# Altium footprint library 101_to_9999_Pin.PcbLib: 7 footprints
Each footprint in its own frame and in the unit in brackets; x right, y up, seen from the top. Pads: shape width x height; smd on the part's side, far side on the other; paste and mask are expansions set on the pad; w line width, h text height; cw(c..) or ccw(c..) is an arc to the next point about the centre after c.
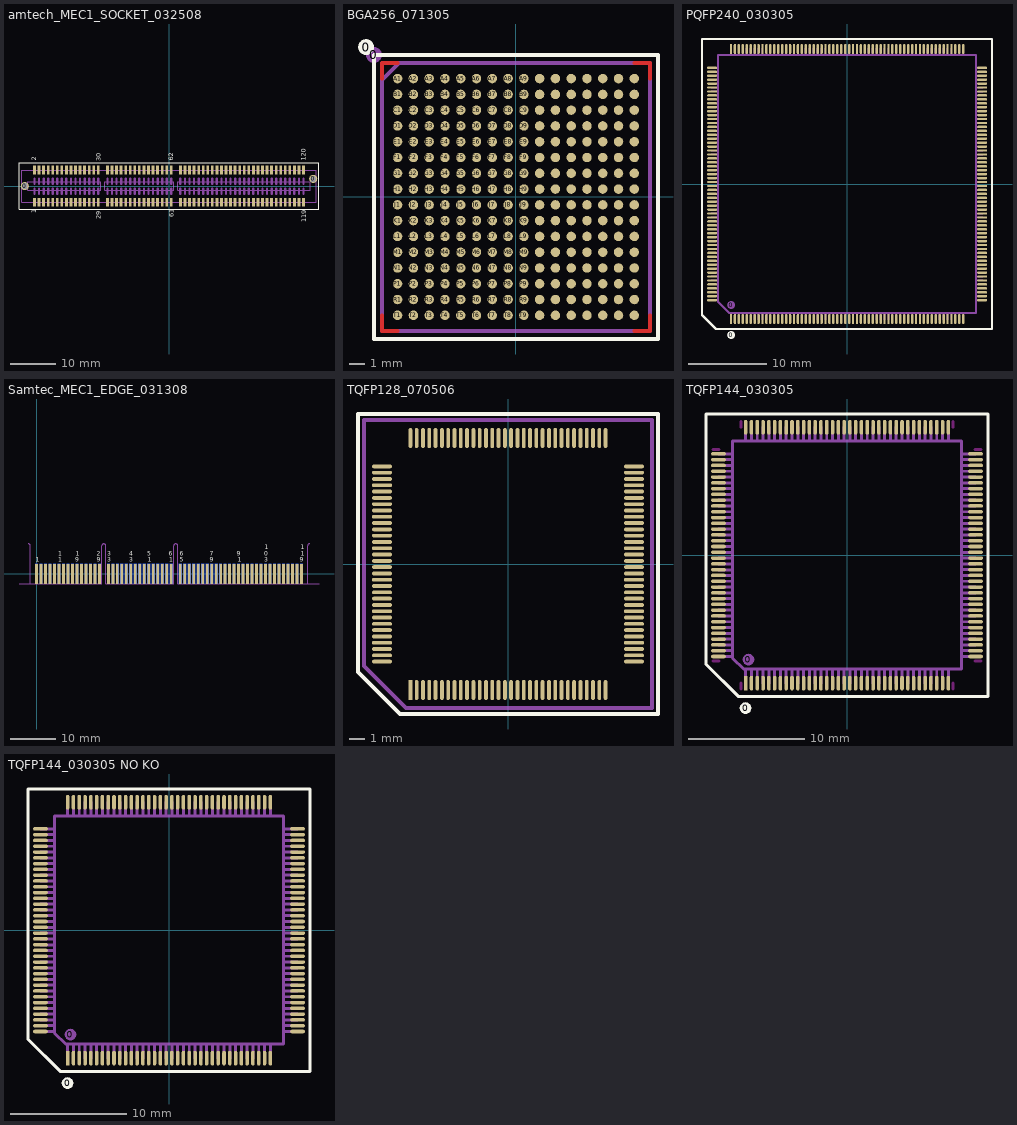
[diagram p0: the footprints below, top view; thin cyan lines are the x and y axes]

## amtech_MEC1_SOCKET_032508 [mil] "SMT"
height 350
pads (118):
  round 70 hole 50: 0(-1245,0) 0(1245,62.5)
  rect 24x74 smd: 1(-1161.41,-139) 2(-1161.41,139) 3(-1122.05,-139) 4(-1122.05,139) 5(-1082.67,-139) 6(-1082.67,139) 7(-1043.31,-139) 8(-1043.31,139) 9(-1003.93,-139) 10(-1003.93,139) 11(-964.57,-139) 12(-964.57,139) 13(-925.2,-139) 14(-925.2,139) 15(-885.83,-139) 16(-885.83,139) 17(-846.46,-139) 18(-846.46,139) 19(-807.09,-139) 20(-807.09,139) 21(-767.72,-139) 22(-767.72,139) 23(-728.35,-139) 24(-728.35,139) 25(-688.98,-139) 26(-688.98,139) 27(-649.61,-139) 28(-649.61,139) 29(-610.24,-139) 30(-610.24,139) 33(-531.5,-139) 34(-531.5,139) 35(-492.12,-139) 36(-492.12,139) 37(-452.75,-139) 38(-452.75,139) 39(-413.38,-139) 40(-413.38,139) 41(-374.01,-139) 42(-374.01,139) 43(-334.64,-139) 44(-334.64,139) 45(-295.27,-139) 46(-295.27,139) 47(-255.91,-139) 48(-255.91,139) 49(-216.53,-139) 50(-216.53,139) 51(-177.16,-139) 52(-177.16,139) 53(-137.79,-139) 54(-137.79,139) 55(-98.42,-139) 56(-98.42,139) 57(-59.05,-139) 58(-59.05,139) 59(-19.68,-139) 60(-19.68,139) 61(19.68,-139) 62(19.68,139) 65(98.42,-139) 66(98.42,139) 67(137.79,-139) 68(137.79,139) 69(177.16,-139) 70(177.16,139) 71(216.53,-139) 72(216.53,139) 73(255.91,-139) 74(255.91,139) 75(295.27,-139) 76(295.27,139) 77(334.64,-139) 78(334.64,139) 79(374.01,-139) 80(374.01,139) 81(413.38,-139) 82(413.38,139) 83(452.75,-139) 84(452.75,139) 85(492.12,-139) 86(492.12,139) 87(531.5,-139) 88(531.5,139) 89(570.87,-139) 90(570.87,139) 91(610.24,-139) 92(610.24,139) 93(649.61,-139) 94(649.61,139) 95(688.98,-139) 96(688.98,139) 97(728.35,-139) 98(728.35,139) 99(767.72,-139) 100(767.72,139) 101(807.09,-139) 102(807.09,139) 103(846.46,-139) 104(846.46,139) 105(885.83,-139) 106(885.83,139) 107(925.2,-139) 108(925.2,139) 109(964.57,-139) 110(964.57,139) 111(1003.93,-139) 112(1003.93,139) 113(1043.31,-139) 114(1043.31,139) 115(1082.67,-139) 116(1082.67,139) 117(1122.05,-139) 118(1122.05,139) 119(1161.41,-139) 120(1161.41,139)
Top Overlay:
  lines w10: -1295,-200 -1295,200 1295,200 1295,-200 -1295,-200
  text "120" at 1180,220 h40
  text "119" at 1185,-310 h40
  text "61" at 40,-270 h40
  text "62" at 35,220 h40
  text "30" at -590,215 h40
  text "29" at -590,-285 h40
  text "1" at -1145,-235 h40
  text "2" at -1145,220 h40
Assembly Outline:
  lines w10: -1270,-138 -1270,138 1270,138 1270,-138 -1270,-138 ; -1220,-36 -590,-36 -590,36 -1220,36 -1220,-36 ; -555,-36 40,-36 40,36 -555,36 -555,-36 ; 75,-36 1220,-36 1220,36 75,36 75,-36
  lines w20: -1122.05,-65 -1122.05,-20 ; -1122.05,20 -1122.05,65 ; -1082.67,-65 -1082.67,-20 ; -1082.67,20 -1082.67,65 ; -1043.31,-65 -1043.31,-20 ; -1043.31,20 -1043.31,65 ; -1003.93,-65 -1003.93,-20 ; -1003.93,20 -1003.93,65 ; -964.57,-65 -964.57,-20 ; -964.57,20 -964.57,65 ; -925.2,-65 -925.2,-20 ; -925.2,20 -925.2,65 ; -885.83,-65 -885.83,-20 ; -885.83,20 -885.83,65 ; -846.46,-65 -846.46,-20 ; -846.46,20 -846.46,65 ; -807.09,-65 -807.09,-20 ; -807.09,20 -807.09,65 ; -767.72,-65 -767.72,-20 ; -767.72,20 -767.72,65 ; -728.35,-65 -728.35,-20 ; -728.35,20 -728.35,65 ; -688.98,-65 -688.98,-20 ; -688.98,20 -688.98,65 ; -649.61,-65 -649.61,-20 ; -649.61,20 -649.61,65 ; -610.24,-65 -610.24,-20 ; -610.24,20 -610.24,65 ; -531.5,-65 -531.5,-20 ; -531.5,20 -531.5,65 ; -492.12,-65 -492.12,-20 ; -492.12,20 -492.12,65 ; -452.75,-65 -452.75,-20 ; -452.75,20 -452.75,65 ; -413.38,-65 -413.38,-20 ; -413.38,20 -413.38,65 ; -374.01,-65 -374.01,-20 ; -374.01,20 -374.01,65 ; -334.64,-65 -334.64,-20 ; -334.64,20 -334.64,65 ; -295.27,-65 -295.27,-20 ; -295.27,20 -295.27,65 ; -255.91,-65 -255.91,-20 ; -255.91,20 -255.91,65 ; -216.53,-65 -216.53,-20 ; -216.53,20 -216.53,65 ; -177.16,-65 -177.16,-20 ; -177.16,20 -177.16,65 ; -137.79,-65 -137.79,-20 ; -137.79,20 -137.79,65 ; -98.42,-65 -98.42,-20 ; -98.42,20 -98.42,65 ; -59.05,-65 -59.05,-20 ; -59.05,20 -59.05,65 ; -19.68,-65 -19.68,-20 ; -19.68,20 -19.68,65 ; 19.68,-65 19.68,-20 ; 19.68,20 19.68,65 ; 98.42,-65 98.42,-20 ; 98.42,20 98.42,65 ; 137.79,-65 137.79,-20 ; 137.79,20 137.79,65 ; 177.16,-65 177.16,-20 ; 177.16,20 177.16,65 ; 216.53,-65 216.53,-20 ; 216.53,20 216.53,65 ; 255.91,-65 255.91,-20 ; 255.91,20 255.91,65 ; 295.27,-65 295.27,-20 ; 295.27,20 295.27,65 ; 334.64,-65 334.64,-20 ; 334.64,20 334.64,65 ; 374.01,-65 374.01,-20 ; 374.01,20 374.01,65 ; 413.38,-65 413.38,-20 ; 413.38,20 413.38,65 ; 452.75,-65 452.75,-20 ; 452.75,20 452.75,65 ; 492.12,-65 492.12,-20 ; 492.12,20 492.12,65 ; 531.5,-65 531.5,-20 ; 531.5,20 531.5,65 ; 570.87,-65 570.87,-20 ; 570.87,20 570.87,65 ; 610.24,-65 610.24,-20 ; 610.24,20 610.24,65 ; 649.61,-65 649.61,-20 ; 649.61,20 649.61,65 ; 688.98,-65 688.98,-20 ; 688.98,20 688.98,65 ; 728.35,-65 728.35,-20 ; 728.35,20 728.35,65 ; 767.72,-65 767.72,-20 ; 767.72,20 767.72,65 ; 807.09,-65 807.09,-20 ; 807.09,20 807.09,65 ; 846.46,-65 846.46,-20 ; 846.46,20 846.46,65 ; 885.83,-65 885.83,-20 ; 885.83,20 885.83,65 ; 925.2,-65 925.2,-20 ; 925.2,20 925.2,65 ; 964.57,-65 964.57,-20 ; 964.57,20 964.57,65 ; 1003.93,-65 1003.93,-20 ; 1003.93,20 1003.93,65 ; 1043.31,-65 1043.31,-20 ; 1043.31,20 1043.31,65 ; 1082.67,-65 1082.67,-20 ; 1082.67,20 1082.67,65 ; 1122.05,-65 1122.05,-20 ; 1122.05,20 1122.05,65 ; 1161.41,-65 1161.41,-20 ; 1161.41,20 1161.41,65 ; -1161.41,-65 -1161.41,-20 -1161.41,-65 ; -1161.41,20 -1161.41,65 -1161.41,20
  text "1" at -1170,-125 h40
  text "29" at -645,-125 h40
  text "61" at -10,-125 h40
  text "119" at 1120,-125 h40
  text "120" at 1110,85 h40
  text "62" at -15,85 h40
  text "30" at -640,85 h40
  text "2" at -1175,85 h40
Assembly Designator:
  text ".Designator" at -1110,-205 h40
Assembly Comment:
  text ".Comment" at -1155,165 h40

## BGA256_071305 [mm] "SMT FP"
height 3.5
pads (258):
  round 1.016 on Top Overlay mask+0.038: 0(-9.5,9.5)
  round 1.016 on Mech1 mask+0.038: 0(-9,9)
  round 0.6 smd mask+0.038: A1(-7.5,7.5) A2(-6.5,7.5) A3(-5.5,7.5) A4(-4.5,7.5) A5(-3.5,7.5) A6(-2.5,7.5) A7(-1.5,7.5) A8(-0.5,7.5) A9(0.5,7.5) A10(1.5,7.5) A11(2.5,7.5) A12(3.5,7.5) A13(4.5,7.5) A14(5.5,7.5) A15(6.5,7.5) A16(7.5,7.5) B1(-7.5,6.5) B2(-6.5,6.5) B3(-5.5,6.5) B4(-4.5,6.5) B5(-3.5,6.5) B6(-2.5,6.5) B7(-1.5,6.5) B8(-0.5,6.5) B9(0.5,6.5) B10(1.5,6.5) B11(2.5,6.5) B12(3.5,6.5) B13(4.5,6.5) B14(5.5,6.5) B15(6.5,6.5) B16(7.5,6.5) C1(-7.5,5.5) C2(-6.5,5.5) C3(-5.5,5.5) C4(-4.5,5.5) C5(-3.5,5.5) C6(-2.5,5.5) C7(-1.5,5.5) C8(-0.5,5.5) C9(0.5,5.5) C10(1.5,5.5) C11(2.5,5.5) C12(3.5,5.5) C13(4.5,5.5) C14(5.5,5.5) C15(6.5,5.5) C16(7.5,5.5) D1(-7.5,4.5) D2(-6.5,4.5) D3(-5.5,4.5) D4(-4.5,4.5) D5(-3.5,4.5) D6(-2.5,4.5) D7(-1.5,4.5) D8(-0.5,4.5) D9(0.5,4.5) D10(1.5,4.5) D11(2.5,4.5) D12(3.5,4.5) D13(4.5,4.5) D14(5.5,4.5) D15(6.5,4.5) D16(7.5,4.5) E1(-7.5,3.5) E2(-6.5,3.5) E3(-5.5,3.5) E4(-4.5,3.5) E5(-3.5,3.5) E6(-2.5,3.5) E7(-1.5,3.5) E8(-0.5,3.5) E9(0.5,3.5) E10(1.5,3.5) E11(2.5,3.5) E12(3.5,3.5) E13(4.5,3.5) E14(5.5,3.5) E15(6.5,3.5) E16(7.5,3.5) F1(-7.5,2.5) F2(-6.5,2.5) F3(-5.5,2.5) F4(-4.5,2.5) F5(-3.5,2.5) F6(-2.5,2.5) F7(-1.5,2.5) F8(-0.5,2.5) F9(0.5,2.5) F10(1.5,2.5) F11(2.5,2.5) F12(3.5,2.5) F13(4.5,2.5) F14(5.5,2.5) F15(6.5,2.5) F16(7.5,2.5) G1(-7.5,1.5) G2(-6.5,1.5) G3(-5.5,1.5) G4(-4.5,1.5) G5(-3.5,1.5) G6(-2.5,1.5) G7(-1.5,1.5) G8(-0.5,1.5) G9(0.5,1.5) G10(1.5,1.5) G11(2.5,1.5) G12(3.5,1.5) G13(4.5,1.5) G14(5.5,1.5) G15(6.5,1.5) G16(7.5,1.5) H1(-7.5,0.5) H2(-6.5,0.5) H3(-5.5,0.5) H4(-4.5,0.5) H5(-3.5,0.5) H6(-2.5,0.5) H7(-1.5,0.5) H8(-0.5,0.5) H9(0.5,0.5) H10(1.5,0.5) H11(2.5,0.5) H12(3.5,0.5) H13(4.5,0.5) H14(5.5,0.5) H15(6.5,0.5) H16(7.5,0.5) J1(-7.5,-0.5) J2(-6.5,-0.5) J3(-5.5,-0.5) J4(-4.5,-0.5) J5(-3.5,-0.5) J6(-2.5,-0.5) J7(-1.5,-0.5) J8(-0.5,-0.5) J9(0.5,-0.5) J10(1.5,-0.5) J11(2.5,-0.5) J12(3.5,-0.5) J13(4.5,-0.5) J14(5.5,-0.5) J15(6.5,-0.5) J16(7.5,-0.5) K1(-7.5,-1.5) K2(-6.5,-1.5) K3(-5.5,-1.5) K4(-4.5,-1.5) K5(-3.5,-1.5) K6(-2.5,-1.5) K7(-1.5,-1.5) K8(-0.5,-1.5) K9(0.5,-1.5) K10(1.5,-1.5) K11(2.5,-1.5) K12(3.5,-1.5) K13(4.5,-1.5) K14(5.5,-1.5) K15(6.5,-1.5) K16(7.5,-1.5) L1(-7.5,-2.5) L2(-6.5,-2.5) L3(-5.5,-2.5) L4(-4.5,-2.5) L5(-3.5,-2.5) L6(-2.5,-2.5) L7(-1.5,-2.5) L8(-0.5,-2.5) L9(0.5,-2.5) L10(1.5,-2.5) L11(2.5,-2.5) L12(3.5,-2.5) L13(4.5,-2.5) L14(5.5,-2.5) L15(6.5,-2.5) L16(7.5,-2.5) M1(-7.5,-3.5) M2(-6.5,-3.5) M3(-5.5,-3.5) M4(-4.5,-3.5) M5(-3.5,-3.5) M6(-2.5,-3.5) M7(-1.5,-3.5) M8(-0.5,-3.5) M9(0.5,-3.5) M10(1.5,-3.5) M11(2.5,-3.5) M12(3.5,-3.5) M13(4.5,-3.5) M14(5.5,-3.5) M15(6.5,-3.5) M16(7.5,-3.5) N1(-7.5,-4.5) N2(-6.5,-4.5) N3(-5.5,-4.5) N4(-4.5,-4.5) N5(-3.5,-4.5) N6(-2.5,-4.5) N7(-1.5,-4.5) N8(-0.5,-4.5) N9(0.5,-4.5) N10(1.5,-4.5) N11(2.5,-4.5) N12(3.5,-4.5) N13(4.5,-4.5) N14(5.5,-4.5) N15(6.5,-4.5) N16(7.5,-4.5) P1(-7.5,-5.5) P2(-6.5,-5.5) P3(-5.5,-5.5) P4(-4.5,-5.5) P5(-3.5,-5.5) P6(-2.5,-5.5) P7(-1.5,-5.5) P8(-0.5,-5.5) P9(0.5,-5.5) P10(1.5,-5.5) P11(2.5,-5.5) P12(3.5,-5.5) P13(4.5,-5.5) P14(5.5,-5.5) P15(6.5,-5.5) P16(7.5,-5.5) R1(-7.5,-6.5) R2(-6.5,-6.5) R3(-5.5,-6.5) R4(-4.5,-6.5) R5(-3.5,-6.5) R6(-2.5,-6.5) R7(-1.5,-6.5) R8(-0.5,-6.5) R9(0.5,-6.5) R10(1.5,-6.5) R11(2.5,-6.5) R12(3.5,-6.5) R13(4.5,-6.5) R14(5.5,-6.5) R15(6.5,-6.5) R16(7.5,-6.5) T1(-7.5,-7.5) T2(-6.5,-7.5) T3(-5.5,-7.5) T4(-4.5,-7.5) T5(-3.5,-7.5) T6(-2.5,-7.5) T7(-1.5,-7.5) T8(-0.5,-7.5) T9(0.5,-7.5) T10(1.5,-7.5) T11(2.5,-7.5) T12(3.5,-7.5) T13(4.5,-7.5) T14(5.5,-7.5) T15(6.5,-7.5) T16(7.5,-7.5)
Top Layer:
  lines w0.254: -8.5,-7.5 -8.5,-8.5 -7.5,-8.5 ; -8.5,7.5 -8.5,8.5 -7.5,8.5 ; 7.5,-8.5 8.5,-8.5 8.5,-7.5 ; 7.5,8.5 8.5,8.5 8.5,7.5
Top Overlay:
  lines w0.254: -9,-9 9,-9 9,0 9,9 -9,9 -9,-9
Top Solder:
  lines w0.254: -8.5,-7.5 -8.5,-8.5 -7.5,-8.5 ; -8.5,7.5 -8.5,8.5 -7.5,8.5 ; 7.5,-8.5 8.5,-8.5 8.5,-7.5 ; 7.5,8.5 8.5,8.5 8.5,7.5
Assembly Outline:
  lines w0.254: -8.5,-8.5 -8.5,7.4 -7.4,8.5 8.5,8.5 8.5,0 8.5,-8.5 -8.5,-8.5
Assembly Designator:
  text ".Designator" at -0.8,-0.3 h1.02
Assembly Comment:
  text ".Comment" at -3.9,-1.7 h1.02

## PQFP240_030305 [mil] "SMT FP"
height 60
pads (242):
  round 40 on Top Overlay mask+1.5: 0(-580,-755)
  round 40 on Mech1 mask+1.5: 0(-580,-605)
  rect 12x50 smd mask+1.5: 1(-580.71,-675)
  oval 12x50 smd mask+1.5: 2(-561.02,-675) 3(-541.34,-675) 4(-521.65,-675) 5(-501.97,-675) 6(-482.28,-675) 7(-462.6,-675) 8(-442.91,-675) 9(-423.23,-675) 10(-403.54,-675) 11(-383.86,-675) 12(-364.17,-675) 13(-344.49,-675) 14(-324.8,-675) 15(-305.12,-675) 16(-285.43,-675) 17(-265.75,-675) 18(-246.06,-675) 19(-226.38,-675) 20(-206.69,-675) 21(-187.01,-675) 22(-167.32,-675) 23(-147.64,-675) 24(-127.95,-675) 25(-108.27,-675) 26(-88.58,-675) 27(-68.9,-675) 28(-49.21,-675) 29(-29.53,-675) 30(-9.84,-675) 31(9.84,-675) 32(29.53,-675) 33(49.21,-675) 34(68.9,-675) 35(88.58,-675) 36(108.27,-675) 37(127.95,-675) 38(147.64,-675) 39(167.32,-675) 40(187.01,-675) 41(206.69,-675) 42(226.38,-675) 43(246.06,-675) 44(265.75,-675) 45(285.43,-675) 46(305.12,-675) 47(324.8,-675) 48(344.49,-675) 49(364.17,-675) 50(383.86,-675) 51(403.54,-675) 52(423.23,-675) 53(442.91,-675) 54(462.6,-675) 55(482.28,-675) 56(501.97,-675) 57(521.65,-675) 58(541.34,-675) 59(561.02,-675) 60(580.71,-675) 121(580.71,675) 122(561.02,675) 123(541.34,675) 124(521.65,675) 125(501.97,675) 126(482.28,675) 127(462.6,675) 128(442.91,675) 129(423.23,675) 130(403.54,675) 131(383.86,675) 132(364.17,675) 133(344.49,675) 134(324.8,675) 135(305.12,675) 136(285.43,675) 137(265.75,675) 138(246.06,675) 139(226.38,675) 140(206.69,675) 141(187.01,675) 142(167.32,675) 143(147.64,675) 144(127.95,675) 145(108.27,675) 146(88.58,675) 147(68.9,675) 148(49.21,675) 149(29.53,675) 150(9.84,675) 151(-9.84,675) 152(-29.53,675) 153(-49.21,675) 154(-68.9,675) 155(-88.58,675) 156(-108.27,675) 157(-127.95,675) 158(-147.64,675) 159(-167.32,675) 160(-187.01,675) 161(-206.69,675) 162(-226.38,675) 163(-246.06,675) 164(-265.75,675) 165(-285.43,675) 166(-305.12,675) 167(-324.8,675) 168(-344.49,675) 169(-364.17,675) 170(-383.86,675) 171(-403.54,675) 172(-423.23,675) 173(-442.91,675) 174(-462.6,675) 175(-482.28,675) 176(-501.97,675) 177(-521.65,675) 178(-541.34,675) 179(-561.02,675) 180(-580.71,675)
  oval 50x12 smd mask+1.5: 61(675,-580.71) 62(675,-561.02) 63(675,-541.34) 64(675,-521.65) 65(675,-501.97) 66(675,-482.28) 67(675,-462.6) 68(675,-442.91) 69(675,-423.23) 70(675,-403.54) 71(675,-383.86) 72(675,-364.17) 73(675,-344.49) 74(675,-324.8) 75(675,-305.12) 76(675,-285.43) 77(675,-265.75) 78(675,-246.06) 79(675,-226.38) 80(675,-206.69) 81(675,-187.01) 82(675,-167.32) 83(675,-147.64) 84(675,-127.95) 85(675,-108.27) 86(675,-88.58) 87(675,-68.9) 88(675,-49.21) 89(675,-29.53) 90(675,-9.84) 91(675,9.84) 92(675,29.53) 93(675,49.21) 94(675,68.9) 95(675,88.58) 96(675,108.27) 97(675,127.95) 98(675,147.64) 99(675,167.32) 100(675,187.01) 101(675,206.69) 102(675,226.38) 103(675,246.06) 104(675,265.75) 105(675,285.43) 106(675,305.12) 107(675,324.8) 108(675,344.49) 109(675,364.17) 110(675,383.86) 111(675,403.54) 112(675,423.23) 113(675,442.91) 114(675,462.6) 115(675,482.28) 116(675,501.97) 117(675,521.65) 118(675,541.34) 119(675,561.02) 120(675,580.71) 181(-675,580.71) 182(-675,561.02) 183(-675,541.34) 184(-675,521.65) 185(-675,501.97) 186(-675,482.28) 187(-675,462.6) 188(-675,442.91) 189(-675,423.23) 190(-675,403.54) 191(-675,383.86) 192(-675,364.17) 193(-675,344.49) 194(-675,324.8) 195(-675,305.12) 196(-675,285.43) 197(-675,265.75) 198(-675,246.06) 199(-675,226.38) 200(-675,206.69) 201(-675,187.01) 202(-675,167.32) 203(-675,147.64) 204(-675,127.95) 205(-675,108.27) 206(-675,88.58) 207(-675,68.9) 208(-675,49.21) 209(-675,29.53) 210(-675,9.84) 211(-675,-9.84) 212(-675,-29.53) 213(-675,-49.21) 214(-675,-68.9) 215(-675,-88.58) 216(-675,-108.27) 217(-675,-127.95) 218(-675,-147.64) 219(-675,-167.32) 220(-675,-187.01) 221(-675,-206.69) 222(-675,-226.38) 223(-675,-246.06) 224(-675,-265.75) 225(-675,-285.43) 226(-675,-305.12) 227(-675,-324.8) 228(-675,-344.49) 229(-675,-364.17) 230(-675,-383.86) 231(-675,-403.54) 232(-675,-423.23) 233(-675,-442.91) 234(-675,-462.6) 235(-675,-482.28) 236(-675,-501.97) 237(-675,-521.65) 238(-675,-541.34) 239(-675,-561.02) 240(-675,-580.71)
Top Overlay:
  lines w10: -725.71,-655 -725.71,725 724.29,725 724.29,-725 -655.71,-725 -725.71,-655
Assembly Outline:
  drawing of 253 lines, arcs and shapes, not listed
Assembly Designator:
  text ".Designator" at -75,-30 h40
Assembly Comment:
  text ".Comment" at -480,-530 h40

## Samtec_MEC1_EDGE_031308 [mil] "SMT"
height 356
pads (116):
  rect 24x175 smd paste-13: 1(0,0) 3(39.37,0) 5(78.74,0) 7(118.11,0) 9(157.48,0) 11(196.85,0) 13(236.22,0) 15(275.59,0) 17(314.96,0) 19(354.33,0) 21(393.7,0) 23(433.07,0) 25(472.44,0) 27(511.81,0) 29(551.18,0) 33(629.92,0) 35(669.29,0) 37(708.66,0) 39(748.03,0) 41(787.4,0) 43(826.77,0) 45(866.14,0) 47(905.51,0) 49(944.88,0) 51(984.25,0) 53(1023.62,0) 55(1062.99,0) 57(1102.36,0) 59(1141.73,0) 61(1181.1,0) 65(1259.84,0) 67(1299.21,0) 69(1338.58,0) 71(1377.95,0) 73(1417.32,0) 75(1456.69,0) 77(1496.06,0) 79(1535.43,0) 81(1574.8,0) 83(1614.17,0) 85(1653.54,0) 87(1692.91,0) 89(1732.28,0) 91(1771.65,0) 93(1811.02,0) 95(1850.39,0) 97(1889.76,0) 99(1929.13,0) 101(1968.5,0) 103(2007.87,0) 105(2047.24,0) 107(2086.61,0) 109(2125.98,0) 111(2165.35,0) 113(2204.72,0) 115(2244.09,0) 117(2283.46,0) 119(2322.83,0)
  rect 24x175 smd far side paste-13: 2(0,0) 4(39.37,0) 6(78.74,0) 8(118.11,0) 10(157.48,0) 12(196.85,0) 14(236.22,0) 16(275.59,0) 18(314.96,0) 20(354.33,0) 22(393.7,0) 24(433.07,0) 26(472.44,0) 28(511.81,0) 30(551.18,0) 34(629.92,0) 36(669.29,0) 38(708.66,0) 40(748.03,0) 42(787.4,0) 44(826.77,0) 46(866.14,0) 48(905.51,0) 50(944.88,0) 52(984.25,0) 54(1023.62,0) 56(1062.99,0) 58(1102.36,0) 60(1141.73,0) 62(1181.1,0) 66(1259.84,0) 68(1299.21,0) 70(1338.58,0) 72(1377.95,0) 74(1417.32,0) 76(1456.69,0) 78(1496.06,0) 80(1535.43,0) 82(1574.8,0) 84(1614.17,0) 86(1653.54,0) 88(1692.91,0) 90(1732.28,0) 92(1771.65,0) 94(1811.02,0) 96(1850.39,0) 98(1889.76,0) 100(1929.13,0) 102(1968.5,0) 104(2007.87,0) 106(2047.24,0) 108(2086.61,0) 110(2125.98,0) 112(2165.35,0) 114(2204.72,0) 116(2244.09,0) 118(2283.46,0) 120(2322.83,0)
Top Overlay:
  text "1" at -5,105 h40
  text "1" at 190,105 h40
  text "9" at 340,105 h40
  text "1" at 345,160 h40
  text "2" at 530,160 h40
  text "9" at 530,105 h40
  text "1" at 190,160 h40
  text "3" at 620,160 h40
  text "3" at 620,105 h40
  text "3" at 815,105 h40
  text "1" at 975,105 h40
  text "1" at 1165,105 h40
  text "4" at 815,160 h40
  text "5" at 970,160 h40
  text "6" at 1160,160 h40
  text "5" at 1255,105 h40
  text "9" at 2310,105 h40
  text "1" at 1765,105 h40
  text "9" at 1520,105 h40
  text "3" at 1995,105 h40
  text "6" at 1255,160 h40
  text "7" at 1520,160 h40
  text "9" at 1755,160 h40
  text "0" at 1995,160 h40
  text "1" at 2315,160 h40
  text "1" at 2000,215 h40
  text "1" at 2315,215 h40
Bottom Overlay:
  text "1" at 190,105 h40
  text "9" at 340,105 h40
  text "9" at 530,105 h40
  text "3" at 620,105 h40
  text "3" at 815,105 h40
  text "1" at 980,105 h40
  text "1" at 1170,105 h40
  text "5" at 1255,105 h40
  text "9" at 1520,105 h40
  text "1" at 1765,105 h40
  text "3" at 1995,105 h40
  text "9" at 2310,105 h40
  text "1" at 2000,215 h40
  text "1" at 2315,215 h40
  text "1" at 2315,160 h40
  text "0" at 1995,160 h40
  text "9" at 1755,160 h40
  text "7" at 1520,160 h40
  text "6" at 1255,160 h40
  text "6" at 1160,160 h40
  text "5" at 970,160 h40
  text "4" at 815,160 h40
  text "3" at 620,160 h40
  text "2" at 530,160 h40
  text "1" at 350,160 h40
  text "1" at 190,160 h40
  text "1" at -5,105 h40
Top Solder:
  rectangle: -60,-90 2375,90
Bottom Solder:
  rectangle: -60,-90 2375,95
Assembly Outline:
  lines w8: -154,-88 -54,-88 572,-88 572,245 cw(c590,245) 608,245 608,-88 1203,-88 1203,245 cw(c1221,245) 1239,245 1239,-88 2376,-88 2376,245 cw(c2394,245) 2394,263 ; -73,263 cw(c-73,245) -55,245 ; -55,-88 -55,244.5 ; 2376.83,-88 2476.83,-88

## TQFP128_070506 [mm] "SMT"
height 1.2
pads (128):
  rect 0.241x1.27 smd mask+0.03: 1(-6.2,-8)
  oval 0.241x1.27 smd mask+0.03: 2(-5.8,-8) 3(-5.4,-8) 4(-5,-8) 5(-4.6,-8) 6(-4.2,-8) 7(-3.8,-8) 8(-3.4,-8) 9(-3,-8) 10(-2.6,-8) 11(-2.2,-8) 12(-1.8,-8) 13(-1.4,-8) 14(-1,-8) 15(-0.6,-8) 16(-0.2,-8) 17(0.2,-8) 18(0.6,-8) 19(1,-8) 20(1.4,-8) 21(1.8,-8) 22(2.2,-8) 23(2.6,-8) 24(3,-8) 25(3.4,-8) 26(3.8,-8) 27(4.2,-8) 28(4.6,-8) 29(5,-8) 30(5.4,-8) 31(5.8,-8) 32(6.2,-8) 65(6.2,8) 66(5.8,8) 67(5.4,8) 68(5,8) 69(4.6,8) 70(4.2,8) 71(3.8,8) 72(3.4,8) 73(3,8) 74(2.6,8) 75(2.2,8) 76(1.8,8) 77(1.4,8) 78(1,8) 79(0.6,8) 80(0.2,8) 81(-0.2,8) 82(-0.6,8) 83(-1,8) 84(-1.4,8) 85(-1.8,8) 86(-2.2,8) 87(-2.6,8) 88(-3,8) 89(-3.4,8) 90(-3.8,8) 91(-4.2,8) 92(-4.6,8) 93(-5,8) 94(-5.4,8) 95(-5.8,8) 96(-6.2,8)
  oval 1.27x0.241 smd mask+0.03: 33(8,-6.2) 34(8,-5.8) 35(8,-5.4) 36(8,-5) 37(8,-4.6) 38(8,-4.2) 39(8,-3.8) 40(8,-3.4) 41(8,-3) 42(8,-2.6) 43(8,-2.2) 44(8,-1.8) 45(8,-1.4) 46(8,-1) 47(8,-0.6) 48(8,-0.2) 49(8,0.2) 50(8,0.6) 51(8,1) 52(8,1.4) 53(8,1.8) 54(8,2.2) 55(8,2.6) 56(8,3) 57(8,3.4) 58(8,3.8) 59(8,4.2) 60(8,4.6) 61(8,5) 62(8,5.4) 63(8,5.8) 64(8,6.2) 97(-8,6.2) 98(-8,5.8) 99(-8,5.4) 100(-8,5) 101(-8,4.6) 102(-8,4.2) 103(-8,3.8) 104(-8,3.4) 105(-8,3) 106(-8,2.6) 107(-8,2.2) 108(-8,1.8) 109(-8,1.4) 110(-8,1) 111(-8,0.6) 112(-8,0.2) 113(-8,-0.2) 114(-8,-0.6) 115(-8,-1) 116(-8,-1.4) 117(-8,-1.8) 118(-8,-2.2) 119(-8,-2.6) 120(-8,-3) 121(-8,-3.4) 122(-8,-3.8) 123(-8,-4.2) 124(-8,-4.6) 125(-8,-5) 126(-8,-5.4) 127(-8,-5.8) 128(-8,-6.2)
Top Overlay:
  lines w0.254: -9.525,-6.858 -9.525,-5.588 -9.525,9.525 9.525,9.525 9.525,0 9.525,-9.525 -6.858,-9.525 -9.525,-6.858
Assembly Outline:
  lines w0.254: -9.144,-6.477 -6.477,-9.144 9.144,-9.144 9.144,0 9.144,9.144 -9.144,9.144 -9.144,-6.477
Assembly Designator:
  text ".Designator" at -0.635,-0.381 h1.02
Assembly Comment:
  text ".Comment" at -4.445,-2.921 h1.02

## TQFP144_030305 [mm] "SMT FP"
height 1.524
pads (146):
  round 1.016 on Top Overlay mask+0.038: 0(-8.763,-13.208)
  round 1.016 on Mech1 mask+0.038: 0(-8.509,-9.017)
  rect 0.305x1.27 smd mask+0.038: 1(-8.75,-11.05)
  oval 0.305x1.27 smd mask+0.038: 2(-8.25,-11.05) 3(-7.75,-11.05) 4(-7.25,-11.05) 5(-6.75,-11.05) 6(-6.25,-11.05) 7(-5.75,-11.05) 8(-5.25,-11.05) 9(-4.75,-11.05) 10(-4.25,-11.05) 11(-3.75,-11.05) 12(-3.25,-11.05) 13(-2.75,-11.05) 14(-2.25,-11.05) 15(-1.75,-11.05) 16(-1.25,-11.05) 17(-0.75,-11.05) 18(-0.25,-11.05) 19(0.25,-11.05) 20(0.75,-11.05) 21(1.25,-11.05) 22(1.75,-11.05) 23(2.25,-11.05) 24(2.75,-11.05) 25(3.25,-11.05) 26(3.75,-11.05) 27(4.25,-11.05) 28(4.75,-11.05) 29(5.25,-11.05) 30(5.75,-11.05) 31(6.25,-11.05) 32(6.75,-11.05) 33(7.25,-11.05) 34(7.75,-11.05) 35(8.25,-11.05) 36(8.75,-11.05) 73(8.75,11.05) 74(8.25,11.05) 75(7.75,11.05) 76(7.25,11.05) 77(6.75,11.05) 78(6.25,11.05) 79(5.75,11.05) 80(5.25,11.05) 81(4.75,11.05) 82(4.25,11.05) 83(3.75,11.05) 84(3.25,11.05) 85(2.75,11.05) 86(2.25,11.05) 87(1.75,11.05) 88(1.25,11.05) 89(0.75,11.05) 90(0.25,11.05) 91(-0.25,11.05) 92(-0.75,11.05) 93(-1.25,11.05) 94(-1.75,11.05) 95(-2.25,11.05) 96(-2.75,11.05) 97(-3.25,11.05) 98(-3.75,11.05) 99(-4.25,11.05) 100(-4.75,11.05) 101(-5.25,11.05) 102(-5.75,11.05) 103(-6.25,11.05) 104(-6.75,11.05) 105(-7.25,11.05) 106(-7.75,11.05) 107(-8.25,11.05) 108(-8.75,11.05)
  oval 1.27x0.305 smd mask+0.038: 37(11.1,-8.75) 38(11.1,-8.25) 39(11.1,-7.75) 40(11.1,-7.25) 41(11.1,-6.75) 42(11.1,-6.25) 43(11.1,-5.75) 44(11.1,-5.25) 45(11.1,-4.75) 46(11.1,-4.25) 47(11.1,-3.75) 48(11.1,-3.25) 49(11.1,-2.75) 50(11.1,-2.25) 51(11.1,-1.75) 52(11.1,-1.25) 53(11.1,-0.75) 54(11.1,-0.25) 55(11.1,0.25) 56(11.1,0.75) 57(11.1,1.25) 58(11.1,1.75) 59(11.1,2.25) 60(11.1,2.75) 61(11.1,3.25) 62(11.1,3.75) 63(11.1,4.25) 64(11.1,4.75) 65(11.1,5.25) 66(11.1,5.75) 67(11.1,6.25) 68(11.1,6.75) 69(11.1,7.25) 70(11.1,7.75) 71(11.1,8.25) 72(11.1,8.75) 109(-11.1,8.75) 110(-11.1,8.25) 111(-11.1,7.75) 112(-11.1,7.25) 113(-11.1,6.75) 114(-11.1,6.25) 115(-11.1,5.75) 116(-11.1,5.25) 117(-11.1,4.75) 118(-11.1,4.25) 119(-11.1,3.75) 120(-11.1,3.25) 121(-11.1,2.75) 122(-11.1,2.25) 123(-11.1,1.75) 124(-11.1,1.25) 125(-11.1,0.75) 126(-11.1,0.25) 127(-11.1,-0.25) 128(-11.1,-0.75) 129(-11.1,-1.25) 130(-11.1,-1.75) 131(-11.1,-2.25) 132(-11.1,-2.75) 133(-11.1,-3.25) 134(-11.1,-3.75) 135(-11.1,-4.25) 136(-11.1,-4.75) 137(-11.1,-5.25) 138(-11.1,-5.75) 139(-11.1,-6.25) 140(-11.1,-6.75) 141(-11.1,-7.25) 142(-11.1,-7.75) 143(-11.1,-8.25) 144(-11.1,-8.75)
Top Layer keep-out:
  lines w0.254: -11.557,-9.144 -11.049,-9.144 ; -11.557,9.144 -11.049,9.144 ; -9.144,-11.557 -9.144,-11.049 ; -9.144,11.049 -9.144,11.557 ; 9.144,-11.557 9.144,-11.049 ; 9.144,11.049 9.144,11.557 ; 11.049,-9.144 11.557,-9.144 ; 11.049,9.144 11.557,9.144
Top Overlay:
  lines w0.254: -12.192,-9.398 -12.192,-9.017 -12.192,12.192 12.192,12.192 12.192,-12.192 -9.398,-12.192 -12.192,-9.398
Assembly Outline:
  drawing of 151 lines, arcs and shapes, not listed
Assembly Designator:
  text ".Designator" at -1.905,-0.381 h1.02
Assembly Comment:
  text ".Comment" at -8.255,-8.382 h1.02

## TQFP144_030305 NO KO [mm] "SMT FP"
height 1.524
pads (146):
  round 1.016 on Top Overlay mask+0.038: 0(-8.763,-13.208)
  round 1.016 on Mech1 mask+0.038: 0(-8.509,-9.017)
  rect 0.305x1.27 smd mask+0.038: 1(-8.75,-11.05)
  oval 0.305x1.27 smd mask+0.038: 2(-8.25,-11.05) 3(-7.75,-11.05) 4(-7.25,-11.05) 5(-6.75,-11.05) 6(-6.25,-11.05) 7(-5.75,-11.05) 8(-5.25,-11.05) 9(-4.75,-11.05) 10(-4.25,-11.05) 11(-3.75,-11.05) 12(-3.25,-11.05) 13(-2.75,-11.05) 14(-2.25,-11.05) 15(-1.75,-11.05) 16(-1.25,-11.05) 17(-0.75,-11.05) 18(-0.25,-11.05) 19(0.25,-11.05) 20(0.75,-11.05) 21(1.25,-11.05) 22(1.75,-11.05) 23(2.25,-11.05) 24(2.75,-11.05) 25(3.25,-11.05) 26(3.75,-11.05) 27(4.25,-11.05) 28(4.75,-11.05) 29(5.25,-11.05) 30(5.75,-11.05) 31(6.25,-11.05) 32(6.75,-11.05) 33(7.25,-11.05) 34(7.75,-11.05) 35(8.25,-11.05) 36(8.75,-11.05) 73(8.75,11.05) 74(8.25,11.05) 75(7.75,11.05) 76(7.25,11.05) 77(6.75,11.05) 78(6.25,11.05) 79(5.75,11.05) 80(5.25,11.05) 81(4.75,11.05) 82(4.25,11.05) 83(3.75,11.05) 84(3.25,11.05) 85(2.75,11.05) 86(2.25,11.05) 87(1.75,11.05) 88(1.25,11.05) 89(0.75,11.05) 90(0.25,11.05) 91(-0.25,11.05) 92(-0.75,11.05) 93(-1.25,11.05) 94(-1.75,11.05) 95(-2.25,11.05) 96(-2.75,11.05) 97(-3.25,11.05) 98(-3.75,11.05) 99(-4.25,11.05) 100(-4.75,11.05) 101(-5.25,11.05) 102(-5.75,11.05) 103(-6.25,11.05) 104(-6.75,11.05) 105(-7.25,11.05) 106(-7.75,11.05) 107(-8.25,11.05) 108(-8.75,11.05)
  oval 1.27x0.305 smd mask+0.038: 37(11.1,-8.75) 38(11.1,-8.25) 39(11.1,-7.75) 40(11.1,-7.25) 41(11.1,-6.75) 42(11.1,-6.25) 43(11.1,-5.75) 44(11.1,-5.25) 45(11.1,-4.75) 46(11.1,-4.25) 47(11.1,-3.75) 48(11.1,-3.25) 49(11.1,-2.75) 50(11.1,-2.25) 51(11.1,-1.75) 52(11.1,-1.25) 53(11.1,-0.75) 54(11.1,-0.25) 55(11.1,0.25) 56(11.1,0.75) 57(11.1,1.25) 58(11.1,1.75) 59(11.1,2.25) 60(11.1,2.75) 61(11.1,3.25) 62(11.1,3.75) 63(11.1,4.25) 64(11.1,4.75) 65(11.1,5.25) 66(11.1,5.75) 67(11.1,6.25) 68(11.1,6.75) 69(11.1,7.25) 70(11.1,7.75) 71(11.1,8.25) 72(11.1,8.75) 109(-11.1,8.75) 110(-11.1,8.25) 111(-11.1,7.75) 112(-11.1,7.25) 113(-11.1,6.75) 114(-11.1,6.25) 115(-11.1,5.75) 116(-11.1,5.25) 117(-11.1,4.75) 118(-11.1,4.25) 119(-11.1,3.75) 120(-11.1,3.25) 121(-11.1,2.75) 122(-11.1,2.25) 123(-11.1,1.75) 124(-11.1,1.25) 125(-11.1,0.75) 126(-11.1,0.25) 127(-11.1,-0.25) 128(-11.1,-0.75) 129(-11.1,-1.25) 130(-11.1,-1.75) 131(-11.1,-2.25) 132(-11.1,-2.75) 133(-11.1,-3.25) 134(-11.1,-3.75) 135(-11.1,-4.25) 136(-11.1,-4.75) 137(-11.1,-5.25) 138(-11.1,-5.75) 139(-11.1,-6.25) 140(-11.1,-6.75) 141(-11.1,-7.25) 142(-11.1,-7.75) 143(-11.1,-8.25) 144(-11.1,-8.75)
Top Overlay:
  lines w0.254: -12.192,-9.398 -12.192,-9.017 -12.192,12.192 12.192,12.192 12.192,-12.192 -9.398,-12.192 -12.192,-9.398
Assembly Outline:
  drawing of 151 lines, arcs and shapes, not listed
Assembly Designator:
  text ".Designator" at -1.905,-0.381 h1.02
Assembly Comment:
  text ".Comment" at -8.255,-8.382 h1.02